# Altium footprint library STD7LN80K5.PcbLib: 1 footprints
Each footprint in its own frame and in the unit in brackets; x right, y up, seen from the top. Pads: shape width x height; smd on the part's side, far side on the other; paste and mask are expansions set on the pad; w line width, h text height; cw(c..) or ccw(c..) is an arc to the next point about the centre after c.
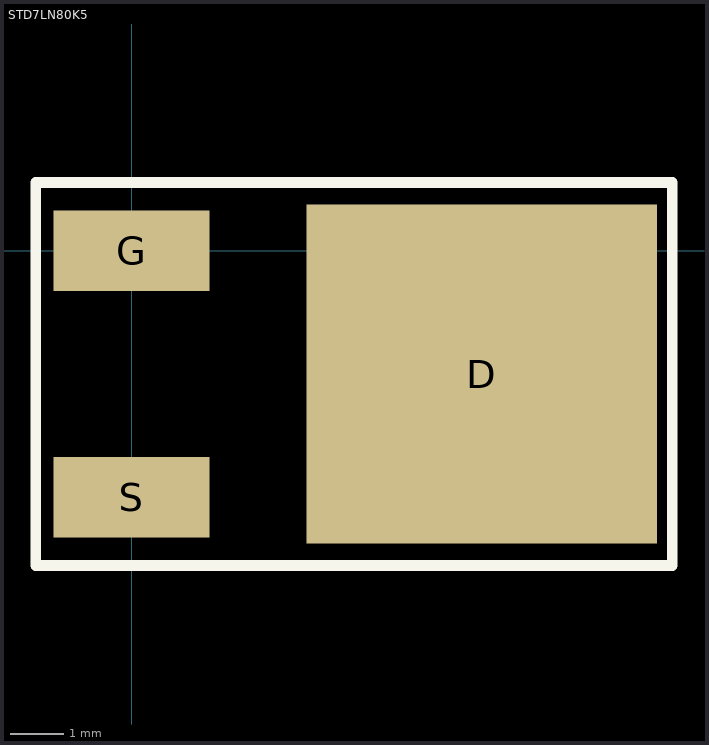
[diagram p0: the footprint, top view; thin cyan lines are the x and y axes]

## STD7LN80K5 [mm] "N-Channel 800V 5A (Tc) 85W (Tc) Surface Mount DPAK"
pads (3):
  rect 6.5x6.3 smd: D(6.5,-2.286)
  rect 2.9x1.5 smd: G(0,0) S(0,-4.572)
Top Overlay:
  lines w0.2: -1.778,-5.842 -1.778,1.27 10.033,1.27 10.033,-5.842 -1.778,-5.842
3D body "DPAK_TO-252AA.step": height 2.41, standoff 0.01, extent -0.798,-5.667 9.302,1.067